# Altium footprint library PCB - LEADLESS - BGA - TI FCBGA-441 AMC0441A.PcbLib: 1 footprints
Each footprint in its own frame and in the unit in brackets; x right, y up, seen from the top. Pads: shape width x height; smd on the part's side, far side on the other; paste and mask are expansions set on the pad; w line width, h text height; cw(c..) or ccw(c..) is an arc to the next point about the centre after c.
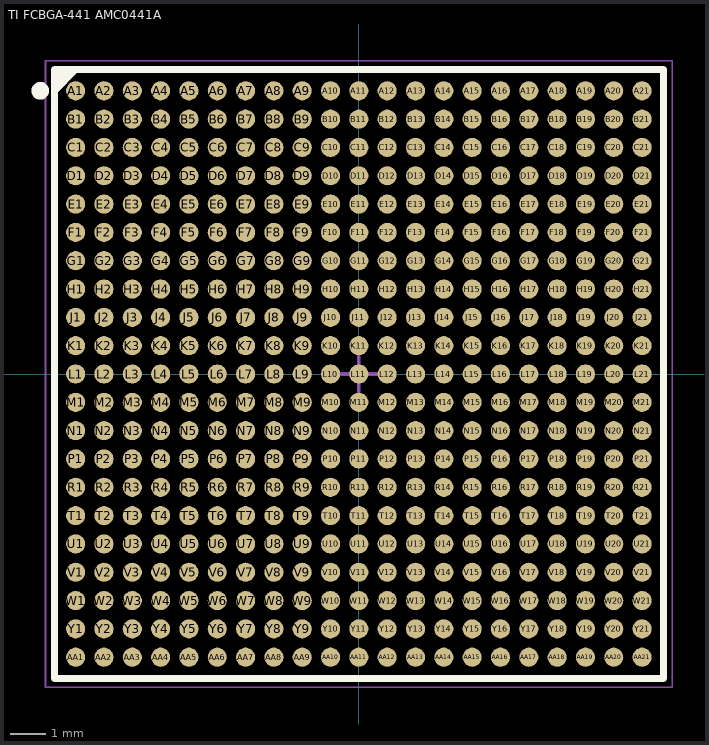
[diagram p0: the footprint, top view; thin cyan lines are the x and y axes]

## TI FCBGA-441 AMC0441A [mm] "FCBGA, 441-Leads, Body 17.20x17.20mmx2.57mm, Pitch 0.80mm"
height 2.57
pads (441):
  round 0.54 smd paste-2539.97 mask-0.07: A1(-8,8) A2(-7.2,8) A3(-6.4,8) A4(-5.6,8) A5(-4.8,8) A6(-4,8) A7(-3.2,8) A8(-2.4,8) A9(-1.6,8) A10(-0.8,8) A11(0,8) A12(0.8,8) A13(1.6,8) A14(2.4,8) A15(3.2,8) A16(4,8) A17(4.8,8) A18(5.6,8) A19(6.4,8) A20(7.2,8) A21(8,8) AA1(-8,-8) AA2(-7.2,-8) AA3(-6.4,-8) AA4(-5.6,-8) AA5(-4.8,-8) AA6(-4,-8) AA7(-3.2,-8) AA8(-2.4,-8) AA9(-1.6,-8) AA10(-0.8,-8) AA11(0,-8) AA12(0.8,-8) AA13(1.6,-8) AA14(2.4,-8) AA15(3.2,-8) AA16(4,-8) AA17(4.8,-8) AA18(5.6,-8) AA19(6.4,-8) AA20(7.2,-8) AA21(8,-8) B1(-8,7.2) B2(-7.2,7.2) B3(-6.4,7.2) B4(-5.6,7.2) B5(-4.8,7.2) B6(-4,7.2) B7(-3.2,7.2) B8(-2.4,7.2) B9(-1.6,7.2) B10(-0.8,7.2) B11(0,7.2) B12(0.8,7.2) B13(1.6,7.2) B14(2.4,7.2) B15(3.2,7.2) B16(4,7.2) B17(4.8,7.2) B18(5.6,7.2) B19(6.4,7.2) B20(7.2,7.2) B21(8,7.2) C1(-8,6.4) C2(-7.2,6.4) C3(-6.4,6.4) C4(-5.6,6.4) C5(-4.8,6.4) C6(-4,6.4) C7(-3.2,6.4) C8(-2.4,6.4) C9(-1.6,6.4) C10(-0.8,6.4) C11(0,6.4) C12(0.8,6.4) C13(1.6,6.4) C14(2.4,6.4) C15(3.2,6.4) C16(4,6.4) C17(4.8,6.4) C18(5.6,6.4) C19(6.4,6.4) C20(7.2,6.4) C21(8,6.4) D1(-8,5.6) D2(-7.2,5.6) D3(-6.4,5.6) D4(-5.6,5.6) D5(-4.8,5.6) D6(-4,5.6) D7(-3.2,5.6) D8(-2.4,5.6) D9(-1.6,5.6) D10(-0.8,5.6) D11(0,5.6) D12(0.8,5.6) D13(1.6,5.6) D14(2.4,5.6) D15(3.2,5.6) D16(4,5.6) D17(4.8,5.6) D18(5.6,5.6) D19(6.4,5.6) D20(7.2,5.6) D21(8,5.6) E1(-8,4.8) E2(-7.2,4.8) E3(-6.4,4.8) E4(-5.6,4.8) E5(-4.8,4.8) E6(-4,4.8) E7(-3.2,4.8) E8(-2.4,4.8) E9(-1.6,4.8) E10(-0.8,4.8) E11(0,4.8) E12(0.8,4.8) E13(1.6,4.8) E14(2.4,4.8) E15(3.2,4.8) E16(4,4.8) E17(4.8,4.8) E18(5.6,4.8) E19(6.4,4.8) E20(7.2,4.8) E21(8,4.8) F1(-8,4) F2(-7.2,4) F3(-6.4,4) F4(-5.6,4) F5(-4.8,4) F6(-4,4) F7(-3.2,4) F8(-2.4,4) F9(-1.6,4) F10(-0.8,4) F11(0,4) F12(0.8,4) F13(1.6,4) F14(2.4,4) F15(3.2,4) F16(4,4) F17(4.8,4) F18(5.6,4) F19(6.4,4) F20(7.2,4) F21(8,4) G1(-8,3.2) G2(-7.2,3.2) G3(-6.4,3.2) G4(-5.6,3.2) G5(-4.8,3.2) G6(-4,3.2) G7(-3.2,3.2) G8(-2.4,3.2) G9(-1.6,3.2) G10(-0.8,3.2) G11(0,3.2) G12(0.8,3.2) G13(1.6,3.2) G14(2.4,3.2) G15(3.2,3.2) G16(4,3.2) G17(4.8,3.2) G18(5.6,3.2) G19(6.4,3.2) G20(7.2,3.2) G21(8,3.2) H1(-8,2.4) H2(-7.2,2.4) H3(-6.4,2.4) H4(-5.6,2.4) H5(-4.8,2.4) H6(-4,2.4) H7(-3.2,2.4) H8(-2.4,2.4) H9(-1.6,2.4) H10(-0.8,2.4) H11(0,2.4) H12(0.8,2.4) H13(1.6,2.4) H14(2.4,2.4) H15(3.2,2.4) H16(4,2.4) H17(4.8,2.4) H18(5.6,2.4) H19(6.4,2.4) H20(7.2,2.4) H21(8,2.4) J1(-8,1.6) J2(-7.2,1.6) J3(-6.4,1.6) J4(-5.6,1.6) J5(-4.8,1.6) J6(-4,1.6) J7(-3.2,1.6) J8(-2.4,1.6) J9(-1.6,1.6) J10(-0.8,1.6) J11(0,1.6) J12(0.8,1.6) J13(1.6,1.6) J14(2.4,1.6) J15(3.2,1.6) J16(4,1.6) J17(4.8,1.6) J18(5.6,1.6) J19(6.4,1.6) J20(7.2,1.6) J21(8,1.6) K1(-8,0.8) K2(-7.2,0.8) K3(-6.4,0.8) K4(-5.6,0.8) K5(-4.8,0.8) K6(-4,0.8) K7(-3.2,0.8) K8(-2.4,0.8) K9(-1.6,0.8) K10(-0.8,0.8) K11(0,0.8) K12(0.8,0.8) K13(1.6,0.8) K14(2.4,0.8) K15(3.2,0.8) K16(4,0.8) K17(4.8,0.8) K18(5.6,0.8) K19(6.4,0.8) K20(7.2,0.8) K21(8,0.8) L1(-8,0) L2(-7.2,0) L3(-6.4,0) L4(-5.6,0) L5(-4.8,0) L6(-4,0) L7(-3.2,0) L8(-2.4,0) L9(-1.6,0) L10(-0.8,0) L11(0,0) L12(0.8,0) L13(1.6,0) L14(2.4,0) L15(3.2,0) L16(4,0) L17(4.8,0) L18(5.6,0) L19(6.4,0) L20(7.2,0) L21(8,0) M1(-8,-0.8) M2(-7.2,-0.8) M3(-6.4,-0.8) M4(-5.6,-0.8) M5(-4.8,-0.8) M6(-4,-0.8) M7(-3.2,-0.8) M8(-2.4,-0.8) M9(-1.6,-0.8) M10(-0.8,-0.8) M11(0,-0.8) M12(0.8,-0.8) M13(1.6,-0.8) M14(2.4,-0.8) M15(3.2,-0.8) M16(4,-0.8) M17(4.8,-0.8) M18(5.6,-0.8) M19(6.4,-0.8) M20(7.2,-0.8) M21(8,-0.8) N1(-8,-1.6) N2(-7.2,-1.6) N3(-6.4,-1.6) N4(-5.6,-1.6) N5(-4.8,-1.6) N6(-4,-1.6) N7(-3.2,-1.6) N8(-2.4,-1.6) N9(-1.6,-1.6) N10(-0.8,-1.6) N11(0,-1.6) N12(0.8,-1.6) N13(1.6,-1.6) N14(2.4,-1.6) N15(3.2,-1.6) N16(4,-1.6) N17(4.8,-1.6) N18(5.6,-1.6) N19(6.4,-1.6) N20(7.2,-1.6) N21(8,-1.6) P1(-8,-2.4) P2(-7.2,-2.4) P3(-6.4,-2.4) P4(-5.6,-2.4) P5(-4.8,-2.4) P6(-4,-2.4) P7(-3.2,-2.4) P8(-2.4,-2.4) P9(-1.6,-2.4) P10(-0.8,-2.4) P11(0,-2.4) P12(0.8,-2.4) P13(1.6,-2.4) P14(2.4,-2.4) P15(3.2,-2.4) P16(4,-2.4) P17(4.8,-2.4) P18(5.6,-2.4) P19(6.4,-2.4) P20(7.2,-2.4) P21(8,-2.4) R1(-8,-3.2) R2(-7.2,-3.2) R3(-6.4,-3.2) R4(-5.6,-3.2) R5(-4.8,-3.2) R6(-4,-3.2) R7(-3.2,-3.2) R8(-2.4,-3.2) R9(-1.6,-3.2) R10(-0.8,-3.2) R11(0,-3.2) R12(0.8,-3.2) R13(1.6,-3.2) R14(2.4,-3.2) R15(3.2,-3.2) R16(4,-3.2) R17(4.8,-3.2) R18(5.6,-3.2) R19(6.4,-3.2) R20(7.2,-3.2) R21(8,-3.2) T1(-8,-4) T2(-7.2,-4) T3(-6.4,-4) T4(-5.6,-4) T5(-4.8,-4) T6(-4,-4) T7(-3.2,-4) T8(-2.4,-4) T9(-1.6,-4) T10(-0.8,-4) T11(0,-4) T12(0.8,-4) T13(1.6,-4) T14(2.4,-4) T15(3.2,-4) T16(4,-4) T17(4.8,-4) T18(5.6,-4) T19(6.4,-4) T20(7.2,-4) T21(8,-4) U1(-8,-4.8) U2(-7.2,-4.8) U3(-6.4,-4.8) U4(-5.6,-4.8) U5(-4.8,-4.8) U6(-4,-4.8) U7(-3.2,-4.8) U8(-2.4,-4.8) U9(-1.6,-4.8) U10(-0.8,-4.8) U11(0,-4.8) U12(0.8,-4.8) U13(1.6,-4.8) U14(2.4,-4.8) U15(3.2,-4.8) U16(4,-4.8) U17(4.8,-4.8) U18(5.6,-4.8) U19(6.4,-4.8) U20(7.2,-4.8) U21(8,-4.8) V1(-8,-5.6) V2(-7.2,-5.6) V3(-6.4,-5.6) V4(-5.6,-5.6) V5(-4.8,-5.6) V6(-4,-5.6) V7(-3.2,-5.6) V8(-2.4,-5.6) V9(-1.6,-5.6) V10(-0.8,-5.6) V11(0,-5.6) V12(0.8,-5.6) V13(1.6,-5.6) V14(2.4,-5.6) V15(3.2,-5.6) V16(4,-5.6) V17(4.8,-5.6) V18(5.6,-5.6) V19(6.4,-5.6) V20(7.2,-5.6) V21(8,-5.6) W1(-8,-6.4) W2(-7.2,-6.4) W3(-6.4,-6.4) W4(-5.6,-6.4) W5(-4.8,-6.4) W6(-4,-6.4) W7(-3.2,-6.4) W8(-2.4,-6.4) W9(-1.6,-6.4) W10(-0.8,-6.4) W11(0,-6.4) W12(0.8,-6.4) W13(1.6,-6.4) W14(2.4,-6.4) W15(3.2,-6.4) W16(4,-6.4) W17(4.8,-6.4) W18(5.6,-6.4) W19(6.4,-6.4) W20(7.2,-6.4) W21(8,-6.4) Y1(-8,-7.2) Y2(-7.2,-7.2) Y3(-6.4,-7.2) Y4(-5.6,-7.2) Y5(-4.8,-7.2) Y6(-4,-7.2) Y7(-3.2,-7.2) Y8(-2.4,-7.2) Y9(-1.6,-7.2) Y10(-0.8,-7.2) Y11(0,-7.2) Y12(0.8,-7.2) Y13(1.6,-7.2) Y14(2.4,-7.2) Y15(3.2,-7.2) Y16(4,-7.2) Y17(4.8,-7.2) Y18(5.6,-7.2) Y19(6.4,-7.2) Y20(7.2,-7.2) Y21(8,-7.2)
Top Overlay:
  circle w0.25: c-9,8 r0.125
  region: -8,8.6 -8.6,8 -8.6,8.6
  lines w0.2: -8.6,8 -8,8.6 ; -8.6,-8.6 -8.6,8.6 8.6,8.6 8.6,-8.6 -8.6,-8.6
Top Paste:
  drawing of 441 lines, arcs and shapes, not listed
Mechanical 13:
  lines w0.1: -8.6,-8.6 -8.6,8.6 8.6,8.6 8.6,-8.6 -8.6,-8.6
Mechanical 15:
  lines w0.05: -8.85,-8.85 -8.85,8.85 8.85,8.85 8.85,-8.85 -8.85,-8.85
  lines w0.1: -0.5,0 0.5,0 ; 0,-0.5 0,0.5
3D body "TI AMC0441A.step": height 2.48, standoff 0, extent -8.6,-8.6 8.6,8.6